# EAGLE library part 90814-0206 (library Molex_By_element14_Batch_1)
CONN HEADER 06 POS 1.27MM SMD TIN
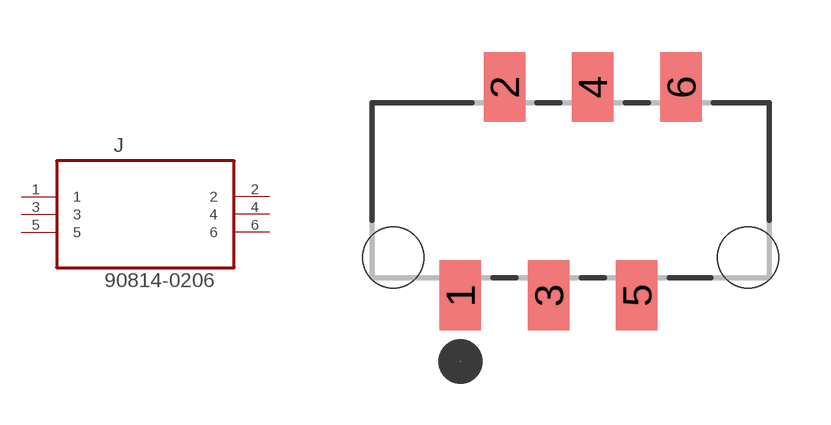
[diagram p1: symbol with the pads of MOLEX_90814-0206; footprint MOLEX_90814-0206]

Designator prefix J

## 90814-0206 (MPN: 90814-0206; OC_FARNELL: 1757024; OC_NEWARK: 34R6215; PACKAGE: CONN-6 POS; SUPPLIER: Molex)  [MOLEX_90814-0206]
1  1  pas
2  2  pas
3  3  pas
4  4  pas
5  5  pas
6  6  pas

## Footprint MOLEX_90814-0206 (pad centres in mm)
smd 1.194 x 2.007: 1 -3.175,-3.175; 2 -1.905,2.819; 3 -0.635,-3.175; 4 0.635,2.819; 5 1.905,-3.175; 6 3.175,2.819
hole 1.753 at -5.105,-2.083
hole 1.753 at 5.105,-2.083